# Altium footprint library MAXM10S00B.PcbLib: 1 footprints
Each footprint in its own frame and in the unit in brackets; x right, y up, seen from the top. Pads: shape width x height; smd on the part's side, far side on the other; paste and mask are expansions set on the pad; w line width, h text height; cw(c..) or ccw(c..) is an arc to the next point about the centre after c.
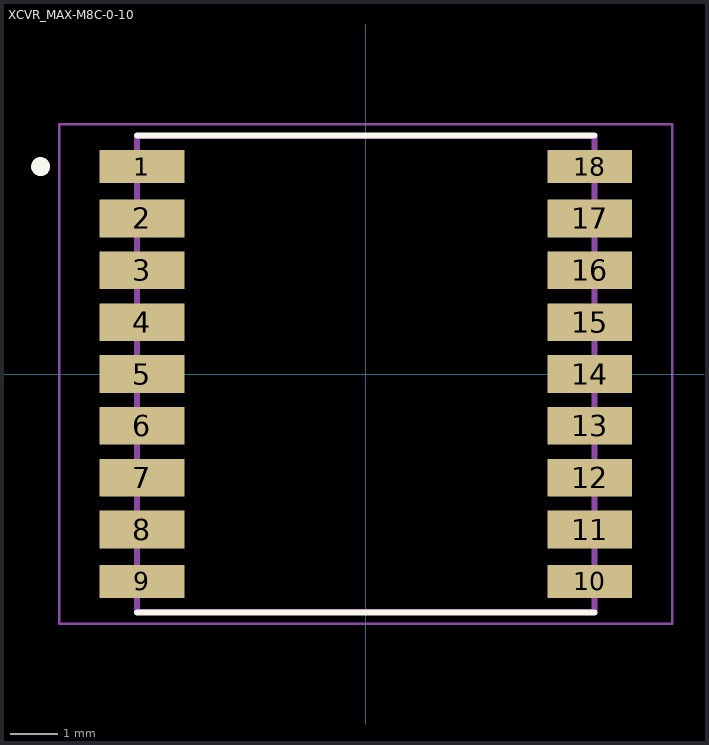
[diagram p0: the footprint, top view; thin cyan lines are the x and y axes]

## XCVR_MAX-M8C-0-10 [mm]
pads (18):
  rect 1.8x0.7 smd paste-2 mask+0: 1(-4.75,4.4) 9(-4.75,-4.4) 10(4.75,-4.4) 18(4.75,4.4)
  rect 1.8x0.8 smd paste-2 mask+0: 2(-4.75,3.3) 3(-4.75,2.2) 4(-4.75,1.1) 5(-4.75,0) 6(-4.75,-1.1) 7(-4.75,-2.2) 8(-4.75,-3.3) 11(4.75,-3.3) 12(4.75,-2.2) 13(4.75,-1.1) 14(4.75,0) 15(4.75,1.1) 16(4.75,2.2) 17(4.75,3.3)
Top Overlay:
  circle w0.2: c-6.9,4.4 r0.1
  lines w0.127: -4.85,-5.064 4.85,-5.064 ; -4.85,5.064 4.85,5.064
Top Paste:
  region: -4.85,-3 -3.95,-3 -3.95,-3.6 -4.85,-3.6 -5.5,-3.6 -5.5,-3
  region: -4.85,-1.9 -3.95,-1.9 -3.95,-2.5 -4.85,-2.5 -5.5,-2.5 -5.5,-1.9
  region: -4.85,-0.8 -3.95,-0.8 -3.95,-1.4 -4.85,-1.4 -5.5,-1.4 -5.5,-0.8
  region: -4.85,0.3 -3.95,0.3 -3.95,-0.3 -4.85,-0.3 -5.5,-0.3 -5.5,0.3
  region: -4.85,1.4 -3.95,1.4 -3.95,0.8 -4.85,0.8 -5.5,0.8 -5.5,1.4
  region: -4.85,2.5 -3.95,2.5 -3.95,1.9 -4.85,1.9 -5.5,1.9 -5.5,2.5
  region: -4.85,3.6 -3.95,3.6 -3.95,3 -4.85,3 -5.5,3 -5.5,3.6
  region: -4.85,-4.15 -3.95,-4.15 -3.95,-4.65 -4.85,-4.65 -5.5,-4.65 -5.5,-4.15
  region: 5.5,4.15 4.85,4.15 3.95,4.15 3.95,4.65 4.85,4.65 5.5,4.65
  region: 5.5,1.9 4.85,1.9 3.95,1.9 3.95,2.5 4.85,2.5 5.5,2.5
  region: 5.5,-0.3 4.85,-0.3 3.95,-0.3 3.95,0.3 4.85,0.3 5.5,0.3
  region: 5.5,3 4.85,3 3.95,3 3.95,3.6 4.85,3.6 5.5,3.6
  region: 5.5,0.8 4.85,0.8 3.95,0.8 3.95,1.4 4.85,1.4 5.5,1.4
  region: 5.5,-1.4 4.85,-1.4 3.95,-1.4 3.95,-0.8 4.85,-0.8 5.5,-0.8
  region: 5.5,-2.5 4.85,-2.5 3.95,-2.5 3.95,-1.9 4.85,-1.9 5.5,-1.9
  region: 5.5,-3.6 4.85,-3.6 3.95,-3.6 3.95,-3 4.85,-3 5.5,-3
  region: 5.5,-4.65 4.85,-4.65 3.95,-4.65 3.95,-4.15 4.85,-4.15 5.5,-4.15
  region: -4.85,4.65 -3.95,4.65 -3.95,4.15 -4.85,4.15 -5.5,4.15 -5.5,4.65
Top Solder:
  region: 5.65,4.05 3.85,4.05 3.85,4.75 5.65,4.75
  region: 5.65,2.9 3.85,2.9 3.85,3.7 5.65,3.7
  region: 5.65,1.8 3.85,1.8 3.85,2.6 5.65,2.6
  region: 5.65,0.7 3.85,0.7 3.85,1.5 5.65,1.5
  region: 5.65,-0.4 3.85,-0.4 3.85,0.4 5.65,0.4
  region: 5.65,-1.5 3.85,-1.5 3.85,-0.7 5.65,-0.7
  region: 5.65,-2.6 3.85,-2.6 3.85,-1.8 5.65,-1.8
  region: 5.65,-3.7 3.85,-3.7 3.85,-2.9 5.65,-2.9
  region: 5.65,-4.75 3.85,-4.75 3.85,-4.05 5.65,-4.05
  region: -3.85,-4.75 -5.65,-4.75 -5.65,-4.05 -3.85,-4.05
  region: -3.85,-3.7 -5.65,-3.7 -5.65,-2.9 -3.85,-2.9
  region: -3.85,-2.6 -5.65,-2.6 -5.65,-1.8 -3.85,-1.8
  region: -3.85,-1.5 -5.65,-1.5 -5.65,-0.7 -3.85,-0.7
  region: -3.85,-0.4 -5.65,-0.4 -5.65,0.4 -3.85,0.4
  region: -3.85,0.7 -5.65,0.7 -5.65,1.5 -3.85,1.5
  region: -3.85,1.8 -5.65,1.8 -5.65,2.6 -3.85,2.6
  region: -3.85,2.9 -5.65,2.9 -5.65,3.7 -3.85,3.7
  region: -3.85,4.05 -5.65,4.05 -5.65,4.75 -3.85,4.75
Mechanical 13:
  circle w0.2: c-6.9,4.4 r0.1
  lines w0.127: -4.85,-5.05 4.85,-5.05 4.85,5.05 -4.85,5.05 -4.85,-5.05
Mechanical 15:
  lines w0.05: -6.5,-5.3 6.5,-5.3 6.5,5.3 -6.5,5.3 -6.5,-5.3
3D body "MAX-M10S-00B.stp": height 2.7, standoff 0, extent -4.85,-5.05 4.85,5.05